# Altium schematic symbol library PT_2PIN_SMD.SchLib: 1 symbol
Pins are listed as number, name and electrical type; pins without a type are passive.

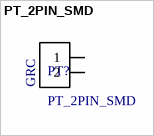
[diagram p0: symbol PT_2PIN_SMD]

## PT_2PIN_SMD
designator PT?
footprint PT_2PIN_SMD
pins: 1, 2
text: GRC